# Altium footprint library BM06B-GHS-TBT (LF)(SN)(N).PcbLib: 1 footprints
Each footprint in its own frame and in the unit in brackets; x right, y up, seen from the top. Pads: shape width x height; smd on the part's side, far side on the other; paste and mask are expansions set on the pad; w line width, h text height; cw(c..) or ccw(c..) is an arc to the next point about the centre after c.
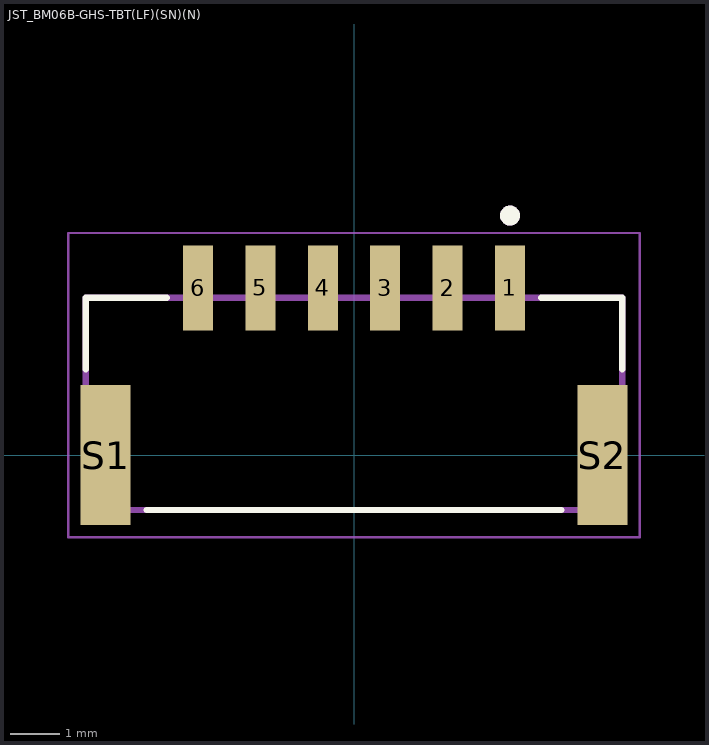
[diagram p0: the footprint, top view; thin cyan lines are the x and y axes]

## JST_BM06B-GHS-TBT(LF)(SN)(N) [mm]
pads (8):
  rect 0.6x1.7 smd: 1(3.125,3.35) 2(1.875,3.35) 3(0.625,3.35) 4(-0.625,3.35) 5(-1.875,3.35) 6(-3.125,3.35)
  rect 1x2.8 smd: S1(-4.975,0) S2(4.975,0)
Top Overlay:
  circle w0.2: c3.125,4.8 r0.1
  lines w0.127: -5.375,1.72 -5.375,3.15 -3.75,3.15 ; -4.15,-1.1 4.15,-1.1 ; 3.75,3.15 5.375,3.15 5.375,1.72
Mechanical 13:
  circle w0.2: c3.125,4.8 r0.1
  lines w0.127: -5.375,-1.1 5.375,-1.1 5.375,3.15 -5.375,3.15 -5.375,-1.1
Mechanical 15:
  lines w0.05: -5.725,-1.65 5.725,-1.65 5.725,4.45 -5.725,4.45 -5.725,-1.65
3D body "step_temp.STEP": height 4.05, standoff -0.15, extent -5.375,-2.125 5.375,2.825